# EAGLE library part MCP6002 (library BME_Components)
1 MHz, Low-Power Operational Amplifier, 8-Pin PDIP, Industrial Temperature
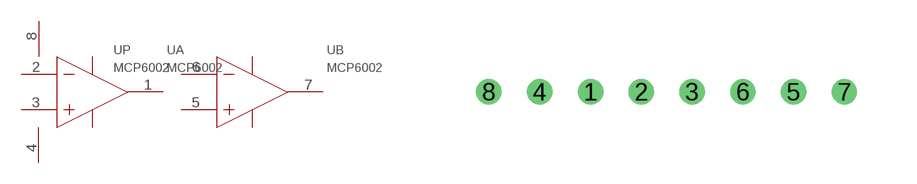
[diagram p5: symbol with the pads of MCP6002_PDIP-8; footprint MCP6002_PDIP-8]

Designator prefix U; gates P=MCP6002_P A=MCP6002_A B=MCP6002_B

## MCP6002MCP6002_MCP6002_PDIP-8 (CODE_JEDEC: MS-001; COMPONENTLINK1DESCRIPTION: Manufacturer URL; COMPONENTLINK1URL: http://www.microchip.com/; COMPONENTLINK2DESCRIPTION: Datasheet; COMPONENTLINK2URL: http://ww1.microchip.com/downloads/en/DeviceDoc/21733j.pdf; COMPONENTLINK3DESCRIPTION: Package Specification; COMPONENTLINK3URL: http://www.microchip.com/stellent/groups/techpub_sg/documents/packagingspec/en012702.pdf; DATASHEETVERSION: revJ, Nov-2009; PACKAGEDESCRIPTION: 8-Lead Plastic Dual In-Line (P) - 300 mil Body [PDIP]; PACKAGEREFERENCE: PDIP300-P8; PACKAGEVERSION: revBB, Aug-2009; PARTID: 1; REVISIONNOTE: URLs added.)  [MCP6002_PDIP-8]
1  A:VOUTA  out
2  A:VINA-  in
3  A:VINA+  in
4  P:VSS  pwr
5  B:VINB+  in
6  B:VINB-  in
7  B:VOUTB  out
8  P:VDD  pwr

## Footprint MCP6002_PDIP-8 (pad centres in mm)
drill 0.127 pad 0.254 round: 1 2.54,0; 2 3.81,0; 3 5.08,0; 4 1.27,0; 5 7.62,0; 6 6.35,0; 7 8.89,0; 8 0,0